# EAGLE library part LüFTUNG_230217_2_ESP12E_DEVKIT_ESP12E_DEVKIT (library Lüftung_230217_2)
ESP12E DEVKIT BOARD
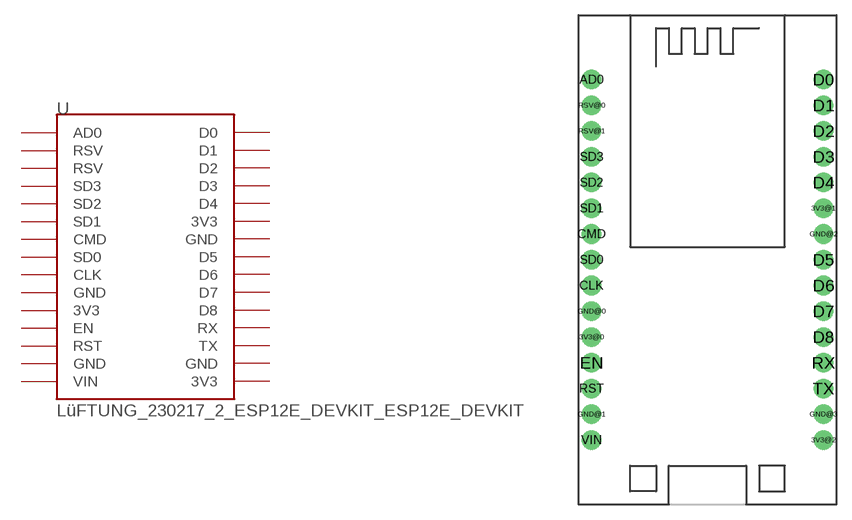
[diagram p0: symbol with the pads of LüFTUNG_230217_2_ESP12E_DEVKIT_ESP12E_DEVKIT; footprint LüFTUNG_230217_2_ESP12E_DEVKIT_ESP12E_DEVKIT]

Designator prefix -

## LüFTUNG_230217_2_ESP12E_DEVKIT_ESP12E_DEVKIT  [LüFTUNG_230217_2_ESP12E_DEVKIT_ESP12E_DEVKIT]
3V3@0  3V3
3V3@1  3V3
3V3@2  3V3
AD0  AD0
CLK  CLK
CMD  CMD
D0  D0
D1  D1
D2  D2
D3  D3
D4  D4
D5  D5
D6  D6
D7  D7
D8  D8
EN  EN
GND@0  GND
GND@1  GND
GND@2  GND
GND@3  GND
RST  RST
RSV@0  RSV
RSV@1  RSV
RX  RX
SD0  SD0
SD1  SD1
SD2  SD2
SD3  SD3
TX  TX
VIN  VIN

## Footprint LüFTUNG_230217_2_ESP12E_DEVKIT_ESP12E_DEVKIT (pad centres in mm)
ESP12E_DEVKIT
drill 0.8 pad 1.93: 3V3@0 -11.43,-7.62; 3V3@1 11.43,5.08; 3V3@2 11.43,-17.78; AD0 -11.43,17.78; CLK -11.43,-2.54; CMD -11.43,2.54; D0 11.43,17.78; D1 11.43,15.24; D2 11.43,12.7; D3 11.43,10.16; D4 11.43,7.62; D5 11.43,0; D6 11.43,-2.54; D7 11.43,-5.08; D8 11.43,-7.62; EN -11.43,-10.16; GND@0 -11.43,-5.08; GND@1 -11.43,-15.24; GND@2 11.43,2.54; GND@3 11.43,-15.24; RST -11.43,-12.7; RSV@0 -11.43,15.24; RSV@1 -11.43,12.7; RX 11.43,-10.16; SD0 -11.43,0; SD1 -11.43,5.08; SD2 -11.43,7.62; SD3 -11.43,10.16; TX 11.43,-12.7; VIN -11.43,-17.78